# Altium integrated library ADS8344E.IntLib: 2 symbols
Pins are listed as number, name and electrical type; pins without a type are passive.

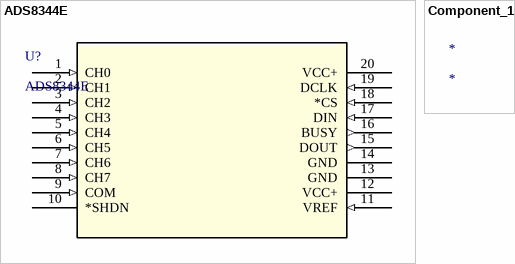
[diagram p0: symbols ADS8344E to Component_1]

## ADS8344E
designator U?
No Description Available; Mfr_Name: Texas Instruments; Copyright: Copyright (C) 2022 Ultra Librarian. All rights reserved.; Manufacturer_Part_Number: ADS8344E; RefDes: RefDes; Type: DEV
footprint DBQ20
pins: 1 CH0 (in), 2 CH1 (in), 3 CH2 (in), 4 CH3 (in), 5 CH4 (in), 6 CH5 (in), 7 CH6 (in), 8 CH7 (in), 9 COM (in), 10 *SHDN, 11 VREF (in), 12 VCC+ (power), 13 GND (power), 14 GND (power), 15 DOUT (out), 16 BUSY (out), 17 DIN (in), 18 *CS (in), 19 DCLK (in), 20 VCC+ (power)

## Component_1
designator *